# Altium footprint library POT.PcbLib: 30 footprints (part 1 of 2)
Each footprint in its own frame and in the unit in brackets; x right, y up, seen from the top. Pads: shape width x height; smd on the part's side, far side on the other; paste and mask are expansions set on the pad; w line width, h text height; cw(c..) or ccw(c..) is an arc to the next point about the centre after c.
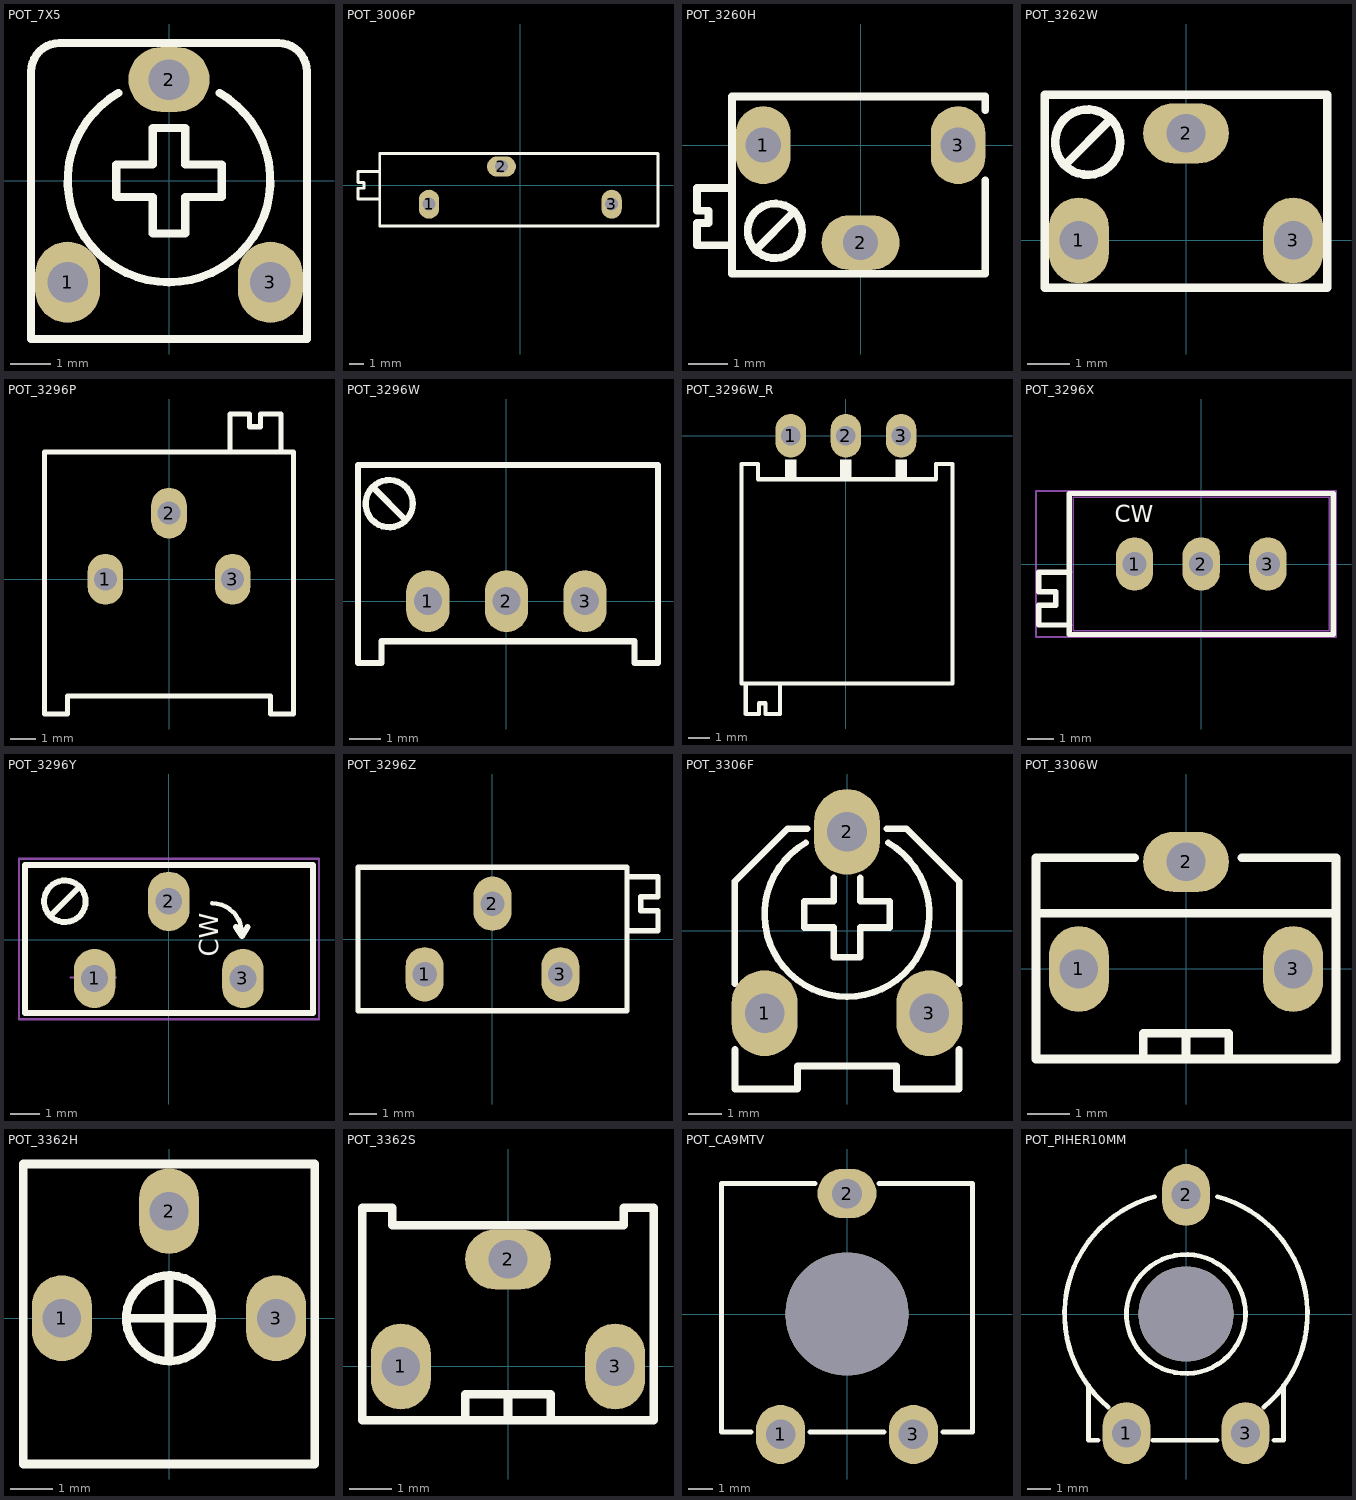
[diagram p0: the footprints below, top view; thin cyan lines are the x and y axes]

## POT_7X5 [mm] "POT, TRIM, 7.5X5.0mm, pitch: 5.0mm"
pads (3):
  oval 1.6x2 hole 1: 1(-2.5,-2.5) 3(2.5,-2.5)
  oval 2x1.6 hole 1: 2(0,2.5)
Top Overlay:
  lines w0.2: -1.25,2.165 ccw(c0,0) 1.25,2.165 ; -3.4,-3.9 -3.4,2.7 cw(c-2.7,2.7) -2.7,3.4 2.7,3.4 cw(c2.7,2.7) 3.4,2.7 3.4,-3.9 -3.4,-3.9 ; -1.3,-0.4 -1.3,0.4 -0.4,0.4 -0.4,1.3 0.4,1.3 0.4,0.4 1.3,0.4 1.3,-0.4 0.4,-0.4 0.4,-1.3 -0.4,-1.3 -0.4,-0.4 -1.3,-0.4
3D body "User Library-Pot - RES_VAR1.STEP": height 7, standoff -3.9, extent -3.25,-3.775 3.25,3.275

## POT_3006P [mm] "POT, TRIM, 19.0X4.8mm 3006P"
pads (3):
  oval 1.4x2 / inner round 1.2 / far side oval 1.4x2 hole 0.9: 1(-6.3,-1.3) 3(6.3,-1.3)
  oval 2x1.4 / inner round 1.2 / far side oval 2x1.4 hole 0.9: 2(-1.3,1.3)
Top Overlay:
  lines w0.2: -9.7,-0.953 -11.2,-0.953 -11.2,-0.2 -10.795,-0.2 -10.795,0.2 -11.2,0.2 -11.2,0.953 -9.7,0.953 ; -9.7,-2.8 -9.7,2.2 9.5,2.2 9.5,-2.8 -9.7,-2.8
3D body "User Library-POT-3006P.step": height 6.35, standoff -1.91, extent -11.145,-2.715 9.425,2.115

## POT_3260H [mm] "POT, TRIM, 4.3X6.3mm 3260H"
pads (3):
  oval 1.4x2 / inner round 1.2 / far side oval 1.4x2 hole 0.9: 1(-2.5,0) 3(2.5,0)
  oval 2x1.4 / inner round 1.2 / far side oval 2x1.4 hole 0.9: 2(0,-2.5)
Top Overlay:
  circle w0.2: c-2.2,-2.2 r0.7
  lines w0.2: -3.3,-2.57 -4.2,-2.57 -4.2,-2 -3.908,-2 -3.908,-1.681 -4.2,-1.681 -4.2,-1.1 -3.3,-1.1 ; -2.7,-2.7 -1.7,-1.7 ; 3.2,-0.9 3.2,-3.3 -3.3,-3.3 -3.3,1.25 3.2,1.25 3.2,0.9
3D body "User Library-POT_3260H.step": height 6.35, standoff -4.78, extent -4.119,-3.218 3.119,1.1

## POT_3262W [mm] "POT, TRIM, 4.3X6.6mm 3262W"
pads (3):
  oval 1.4x2 / inner round 1.2 / far side oval 1.4x2 hole 0.9: 1(-2.5,0) 3(2.5,0)
  oval 2x1.4 / inner round 1.2 / far side oval 2x1.4 hole 0.9: 2(0,2.5)
Top Overlay:
  circle w0.2: c-2.294,2.294 r0.762
  lines w0.2: -2.802,1.786 -1.786,2.802 ; -3.3,-1.1 -3.3,3.4 3.3,3.4 3.3,-1.1 -3.3,-1.1
3D body "User Library-POT-3262W-1.step": height 7.37, standoff -1.91, extent -3.175,-1 3.175,3.318

## POT_3296P [mm] "POT, TRIM, 9.5X9.5mm HORIZENTAL 3296P"
pads (3):
  oval 1.4x2 / inner round 1.2 / far side oval 1.4x2 hole 0.9: 1(-2.5,0) 2(0,2.6) 3(2.5,0)
Top Overlay:
  lines w0.2: 2.4,5.03 2.4,6.5 3.163,6.5 3.163,6 3.6,6 3.6,6.5 4.4,6.5 4.4,5.03 ; -4.9,-5.3 -4,-5.3 -4,-4.6 4,-4.6 4,-5.3 4.9,-5.3 4.9,5 -4.9,5 -4.9,-5.3
3D body "User Library-Trimming Potentiometer Horizontal 3296P 503 - 50k.step": height 4.91, standoff -8.15, extent -4.765,-5.2 4.765,6.43

## POT_3296W [mm] "POT, TRIM, 10.0X5.0mm, pitch: 2.5mm 3299W 3296W S64W"
pads (3):
  oval 1.4x2 / inner round 1.2 / far side oval 1.4x2 hole 0.9: 1(-2.54,0) 2(0,0) 3(2.54,0)
Top Overlay:
  circle w0.2: c-3.791,3.151 r0.762
  lines w0.2: -4.299,3.659 -3.283,2.643 ; -4.8,-2 -4.045,-2 -4.045,-1.3 4.145,-1.3 4.145,-2 4.9,-2 4.9,4.4 -4.8,4.4 -4.8,-2
3D body "pot 3299W-1-103RLF.step": height 11.56, standoff -6.22, extent -4.725,-1.848 4.8,4.248

## POT_3296W_R [mm] "POT, TRIM, 10.0X5.0mm, pitch: 2.5mm 3299W 3296W S64W BENDED"
pads (3):
  oval 1.4x2 / inner round 1.2 / far side oval 1.4x2 hole 0.9: 1(-2.54,0) 2(0,0) 3(2.54,0)
Top Overlay:
  region: 2.29,-1.1 2.79,-1.1 2.79,-2 2.29,-2
  region: -2.79,-1.1 -2.29,-1.1 -2.29,-2 -2.79,-2
  region: -0.25,-1.1 0.25,-1.1 0.25,-2 -0.25,-2
  lines w0.2: -4.6,-11.4 -4.6,-12.8 -4,-12.8 -4,-12.3 -3.7,-12.3 -3.7,-12.8 -3.029,-12.8 -3.029,-11.4 ; -4.8,-11.4 -4.8,-1.3 -4.045,-1.3 -4.045,-2 4.145,-2 4.145,-1.3 4.9,-1.3 4.9,-11.4 -4.8,-11.4
3D body "3296W BENDED.step": height 4.42, standoff -3.87, extent -4.712,-12.867 4.818,0.233

## POT_3296X [mm] "POT, TRIM, 10.0X5.0mm, pitch: 2.5mm, MURATA, PV36X 3296X"
height 10
pads (3):
  oval 1.4x2 / inner round 1.2 / far side oval 1.4x2 hole 0.9: 1(-2.5,0) 2(0,0) 3(2.5,0)
Top Overlay:
  lines w0.2: -4.953,-2.286 -6.096,-2.286 -6.096,-1.549 -5.461,-1.549 -5.461,-1.041 -6.096,-1.041 -6.096,-0.305 -4.953,-0.305 ; -4.953,-2.642 4.953,-2.642 4.953,2.642 -4.953,2.642 -4.953,-2.642
  text "CW" at -3.24,1.567 h0.64
Mechanical 13:
  lines w0.05: -4.8,-2.3 -6.1,-2.3 -6.1,-1.6 -5.4,-1.6 -5.4,-1 -6.1,-1 -6.1,-0.3 -4.8,-0.3 ; -4.8,-2.5 -4.8,2.5 4.8,2.5 4.8,-2.5 -4.8,-2.5
Mechanical 15:
  lines w0.076: -6.198,-2.743 -6.198,2.743 5.055,2.743 5.055,-2.743 -6.198,-2.743
3D body "Trimmer PV36 Side Adjust.STEP": height 10, standoff -2.8, extent -6.1,-2.5 4.8,2.5

## POT_3296Y [mm] "POT, TRIM, 10.0X5.0mm, pitch: 2.5mm, MURATA, PV36Y 3296Y S64Y"
height 10.7
pads (3):
  oval 1.4x2 / inner round 1.2 / far side oval 1.4x2 hole 0.9: 1(-2.5,-1.3) 2(0,1.3) 3(2.5,-1.3)
Top Overlay:
  circle w0.2: c-3.5,1.3 r0.7
  lines w0.152: 1.46,1.23 cw(c1.46,0.225) 2.465,0.225
  lines w0.2: -4,0.8 -3,1.8 ; 2.26,0.43 2.465,0.13 2.66,0.43 ; -4.84,-2.47 -4.84,2.53 4.86,2.53 4.86,-2.47 -4.84,-2.47
  text "CW" at 1.66,-0.57 h0.64
Mechanical 13:
  lines w0.076: -4.84,-2.47 -4.84,2.53 4.86,2.53 4.86,-2.47 -4.84,-2.47
Mechanical 15:
  lines w0.076: -3.302,-1.27 -1.778,-1.27 ; -2.54,-2.032 -2.54,-0.508 ; -5.046,-2.67 5.063,-2.67 5.063,2.73 -5.046,2.73 -5.046,-2.67
3D body "3100-517 TrimPot.stp": height 11.3, standoff -6, extent -4.84,-2.47 4.76,2.53

## POT_3296Z [mm] "POT, TRIM, 10.0X5.0mm, pitch: 2.5mm, 3296Z"
height 10
pads (3):
  oval 1.4x2 / inner round 1.2 / far side oval 1.4x2 hole 0.9: 1(-2.5,-1.3) 2(0,1.3) 3(2.5,-1.3)
Top Overlay:
  lines w0.2: 4.953,0.305 6.096,0.305 6.096,1.041 5.461,1.041 5.461,1.549 6.096,1.549 6.096,2.286 4.953,2.286 ; -4.953,-2.642 -4.953,2.642 4.953,2.642 4.953,-2.642 -4.953,-2.642
3D body "SW3dPS-bourns 3296Z pot.STEP": height 10.03, standoff -6.4, extent -4.765,-2.418 6.285,2.413

## POT_3306F [mm] "POT, TRIM, 7.0X7.0mm, pitch: 2.5mm, MURATA, 3306F"
pads (3):
  oval 2x2.6 hole 1.2: 1(-2.5,-2.5) 2(0,3) 3(2.5,-2.5)
Top Overlay:
  lines w0.2: -3.4,-1.6 -3.4,1.5 -1.8,3.1 -1.2,3.1 ; -1.25,2.665 ccw(c0,0.5) 1.25,2.665 ; -0.4,1.6 -0.4,0.9 -1.3,0.9 -1.3,0.1 -0.4,0.1 -0.4,-0.8 0.4,-0.8 0.4,0.1 1.3,0.1 1.3,0.9 0.4,0.9 0.4,1.6 ; 1.2,3.1 1.8,3.1 3.4,1.5 3.4,-1.6
  lines w0.203: -3.4,-3.6 -3.4,-4.8 -1.5,-4.8 -1.5,-4.1 1.5,-4.1 1.5,-4.8 3.4,-4.8 3.4,-3.6
3D body "Trimmer, 3306F.step": height 7.62, standoff -3.04, extent -3.405,-4.876 3.405,3.79

## POT_3306W [mm] "POT, TRIM, 4.5X6.8mm 3306W"
pads (3):
  oval 1.4x2 / inner round 1.2 / far side oval 1.4x2 hole 0.9: 1(-2.5,0) 3(2.5,0)
  oval 2x1.4 / inner round 1.2 / far side oval 2x1.4 hole 0.9: 2(0,2.5)
Top Overlay:
  lines w0.2: -1.2,2.6 -3.5,2.6 -3.5,1.3 ; -1,-2.1 -1,-1.5 0,-1.5 ; 0,-2.1 0,-1.5 ; 1,-2 1,-1.5 0,-1.5 ; 1.3,2.6 3.5,2.6 3.5,1.3 ; -3.5,1.3 3.5,1.3 ; -3.5,1.3 -3.5,-2.1 3.5,-2.1 3.5,1.3
3D body "User Library-POT-3306W.step": height 8.4, standoff -1.91, extent -3.405,-2 3.405,2.65

## POT_3362H [mm] "POT, TRIM, 6.6X6.8mm 3362H, 3362P, 3362R"
pads (3):
  oval 1.4x2 / inner round 1.2 / far side oval 1.4x2 hole 0.9: 1(-2.5,0) 2(0,2.5) 3(2.5,0)
Top Overlay:
  circle w0.2: c0,0 r1
  lines w0.2: -1,0 1,0 ; 0,-1 0,1 ; -3.4,-3.4 -3.4,3.6 3.4,3.6 3.4,-3.4 -3.4,-3.4
3D body "User Library-Bourns 3362R.step": height 4.7, standoff -5.47, extent -3.3,-3.3 3.3,3.754

## POT_3362S [mm] "POT, TRIM, 4.3X6.6mm 3362S"
pads (3):
  oval 1.4x2 / inner round 1.2 / far side oval 1.4x2 hole 0.9: 1(-2.5,0) 3(2.5,0)
  oval 2x1.4 / inner round 1.2 / far side oval 2x1.4 hole 0.9: 2(0,2.5)
Top Overlay:
  lines w0.2: -1,-1.25 -1,-0.65 0,-0.65 ; 0,-1.25 0,-0.65 ; 1,-1.15 1,-0.65 0,-0.65 ; -3.4,-1.25 3.4,-1.25 3.4,3.3 3.4,3.7 2.7,3.7 2.7,3.3 -2.7,3.3 -2.7,3.7 -3.4,3.7 -3.4,3.3 -3.4,-1.25
3D body "User Library-Bourns 3362S.step": height 7.1, standoff -5.4, extent -3.3,-1.1 3.3,3.6

## POT_CA9MTV [mm] "POT, TRIM, 10.0X10.0mm, CA9MTV"
pads (4):
  oval 2x2.4 hole 1.2: 1(-2.7,-4.9) 3(2.7,-4.9)
  oval 2.4x2 hole 1.2: 2(0,4.9)
  round 5 hole 5 unplated: ""(0,0)
Top Overlay:
  lines w0.2: -3.9,-4.8 -5.1,-4.8 -5.1,5.3 -1.3,5.3 ; -1.5,-4.8 1.5,-4.8 ; 1.3,5.3 5.1,5.3 5.1,-4.8 3.9,-4.8
3D body "SW3dPS-Trimpot Horizontal.STEP": height 6.4, standoff -3.4, extent -5,-5.044 5,5.156

## POT_PIHER10MM [mm] "POT, TRIM, PIHER PT-10 10mm"
pads (4):
  oval 2x2.6 hole 1.2: 1(-2.5,-5) 2(0,5) 3(2.5,-5)
  round 4 hole 4 unplated mask+0.1: ""(0,0)
Top Overlay:
  circle w0.2: c0,0 r2.5
  lines w0.2: -4.1,-3 -4.1,-5.3 -3.7,-5.3 ; -3.278,-3.907 cw(c0,0) -1.32,4.926 ; -1.4,-5.3 1.3,-5.3 ; 1.32,4.926 cw(c0,0) 3.278,-3.907 ; 3.7,-5.3 4.1,-5.3 4.1,-3
3D body "User Library-PT10MV.step": height 6.26, standoff -3.5, extent -5.15,-5.069 5.15,5.531